# EAGLE library part C3004_SRC04X2 (library Connetors_ACTIVE14)
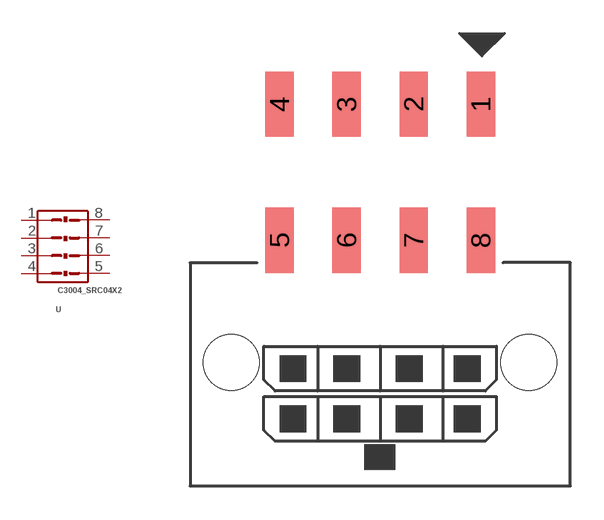
[diagram p5: symbol with the pads of C3004_SRC04X2; footprint C3004_SRC04X2]

Designator prefix -

## C3004_SRC04X2_SMT_8  [C3004_SRC04X2]
1  1  pas
2  2  pas
3  3  pas
4  4  pas
5  5  pas
6  6  pas
7  7  pas
8  8  pas

## Footprint C3004_SRC04X2 (pad centres in mm)
smd 1.27 x 2.92: 1 9,6.09; 2 6,6.09; 3 3,6.09; 4 0,6.09; 5 0,0; 6 3,0; 7 6,0; 8 9,0
hole 2.5 at -2.15,-5.47
hole 2.5 at 11.15,-5.47